# EAGLE library part IC_64 (library atmel_prototype_header)
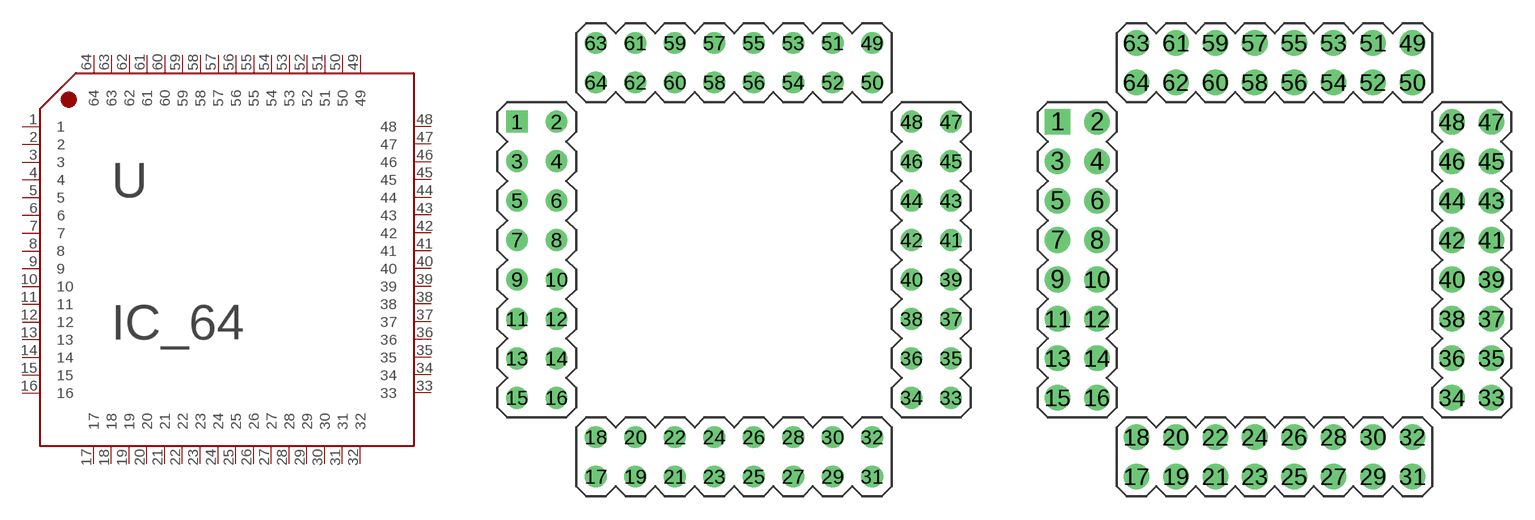
[diagram p12: symbol with the pads of HEADER_DUALSQR64_35; footprints HEADER_DUALSQR64_35, HEADER_DUALSQR64_43]

Designator prefix U

## IC_64_35  [HEADER_DUALSQR64_35]
1  1
2  2
3  3
4  4
5  5
6  6
7  7
8  8
9  9
10  10
11  11
12  12
13  13
14  14
15  15
16  16
17  17
18  18
19  19
20  20
21  21
22  22
23  23
24  24
25  25
26  26
27  27
28  28
29  29
30  30
31  31
32  32
33  33
34  34
35  35
36  36
37  37
38  38
39  39
40  40
41  41
42  42
43  43
44  44
45  45
46  46
47  47
48  48
49  49
50  50
51  51
52  52
53  53
54  54
55  55
56  56
57  57
58  58
59  59
60  60
61  61
62  62
63  63
64  64

## IC_64_43  [HEADER_DUALSQR64_43]
Pads as for HEADER_DUALSQR64_35

## IC_64_TQFP_EZ  [TQFP64_EZ]
Pads as for HEADER_DUALSQR64_35

## IC_64_MLF  [MLF64]
Pads as for HEADER_DUALSQR64_35

## IC_64_TQFP  [TQFP64]
Pads as for HEADER_DUALSQR64_35

## IC_64_LQFP_MILL  [LQFP64_MILL]
Pads as for HEADER_DUALSQR64_35

## IC_64_LQFP  [LQFP64]
Pads as for HEADER_DUALSQR64_35

## IC_64_PLCC_35  [HEADER_PLCC64_35]
Pads as for HEADER_DUALSQR64_35

## IC_64_PLCC_43  [HEADER_PLCC64_43]
Pads as for HEADER_DUALSQR64_35

## IC_64_LQFP_EZ  [LQFP64_EZ]
Pads as for HEADER_DUALSQR64_35

## Footprint HEADER_DUALSQR64_35 (pad centres in mm)
drill 0.9 square: 1 -13.97,8.89
drill 0.9: 2 -11.43,8.89; 3 -13.97,6.35; 4 -11.43,6.35; 5 -13.97,3.81; 6 -11.43,3.81; 7 -13.97,1.27; 8 -11.43,1.27; 9 -13.97,-1.27; 10 -11.43,-1.27; 11 -13.97,-3.81; 12 -11.43,-3.81; 13 -13.97,-6.35; 14 -11.43,-6.35; 15 -13.97,-8.89; 16 -11.43,-8.89; 17 -8.89,-13.97; 18 -8.89,-11.43; 19 -6.35,-13.97; 20 -6.35,-11.43; 21 -3.81,-13.97; 22 -3.81,-11.43; 23 -1.27,-13.97; 24 -1.27,-11.43; 25 1.27,-13.97; 26 1.27,-11.43; 27 3.81,-13.97; 28 3.81,-11.43; 29 6.35,-13.97; 30 6.35,-11.43; 31 8.89,-13.97; 32 8.89,-11.43; 33 13.97,-8.89; 34 11.43,-8.89; 35 13.97,-6.35; 36 11.43,-6.35; 37 13.97,-3.81; 38 11.43,-3.81; 39 13.97,-1.27; 40 11.43,-1.27; 41 13.97,1.27; 42 11.43,1.27; 43 13.97,3.81; 44 11.43,3.81; 45 13.97,6.35; 46 11.43,6.35; 47 13.97,8.89; 48 11.43,8.89; 49 8.89,13.97; 50 8.89,11.43; 51 6.35,13.97; 52 6.35,11.43; 53 3.81,13.97; 54 3.81,11.43; 55 1.27,13.97; 56 1.27,11.43; 57 -1.27,13.97; 58 -1.27,11.43; 59 -3.81,13.97; 60 -3.81,11.43; 61 -6.35,13.97; 62 -6.35,11.43; 63 -8.89,13.97; 64 -8.89,11.43

## Footprint HEADER_DUALSQR64_43 (pad centres in mm)
drill 1.1 square: 1 -13.97,8.89
drill 1.1: 2 -11.43,8.89; 3 -13.97,6.35; 4 -11.43,6.35; 5 -13.97,3.81; 6 -11.43,3.81; 7 -13.97,1.27; 8 -11.43,1.27; 9 -13.97,-1.27; 10 -11.43,-1.27; 11 -13.97,-3.81; 12 -11.43,-3.81; 13 -13.97,-6.35; 14 -11.43,-6.35; 15 -13.97,-8.89; 16 -11.43,-8.89; 17 -8.89,-13.97; 18 -8.89,-11.43; 19 -6.35,-13.97; 20 -6.35,-11.43; 21 -3.81,-13.97; 22 -3.81,-11.43; 23 -1.27,-13.97; 24 -1.27,-11.43; 25 1.27,-13.97; 26 1.27,-11.43; 27 3.81,-13.97; 28 3.81,-11.43; 29 6.35,-13.97; 30 6.35,-11.43; 31 8.89,-13.97; 32 8.89,-11.43; 33 13.97,-8.89; 34 11.43,-8.89; 35 13.97,-6.35; 36 11.43,-6.35; 37 13.97,-3.81; 38 11.43,-3.81; 39 13.97,-1.27; 40 11.43,-1.27; 41 13.97,1.27; 42 11.43,1.27; 43 13.97,3.81; 44 11.43,3.81; 45 13.97,6.35; 46 11.43,6.35; 47 13.97,8.89; 48 11.43,8.89; 49 8.89,13.97; 50 8.89,11.43; 51 6.35,13.97; 52 6.35,11.43; 53 3.81,13.97; 54 3.81,11.43; 55 1.27,13.97; 56 1.27,11.43; 57 -1.27,13.97; 58 -1.27,11.43; 59 -3.81,13.97; 60 -3.81,11.43; 61 -6.35,13.97; 62 -6.35,11.43; 63 -8.89,13.97; 64 -8.89,11.43

## Footprint TQFP64_EZ (pad centres in mm)
smd 1.524 x 0.406: 1 -7.76,5.905; 2 -7.76,5.118; 3 -7.76,4.331; 4 -7.76,3.543; 5 -7.76,2.756; 6 -7.76,1.968; 7 -7.76,1.181; 8 -7.76,0.394; 9 -7.76,-0.394; 10 -7.76,-1.181; 11 -7.76,-1.968; 12 -7.76,-2.756; 13 -7.76,-3.543; 14 -7.76,-4.331; 15 -7.76,-5.118; 16 -7.76,-5.905; 33 7.76,-5.905; 34 7.76,-5.118; 35 7.76,-4.331; 36 7.76,-3.543; 37 7.76,-2.756; 38 7.76,-1.968; 39 7.76,-1.181; 40 7.76,-0.394; 41 7.76,0.394; 42 7.76,1.181; 43 7.76,1.968; 44 7.76,2.756; 45 7.76,3.543; 46 7.76,4.331; 47 7.76,5.118; 48 7.76,5.905
smd 0.406 x 1.524: 17 -5.905,-7.76; 18 -5.118,-7.76; 19 -4.331,-7.76; 20 -3.543,-7.76; 21 -2.756,-7.76; 22 -1.968,-7.76; 23 -1.181,-7.76; 24 -0.394,-7.76; 25 0.394,-7.76; 26 1.181,-7.76; 27 1.968,-7.76; 28 2.756,-7.76; 29 3.543,-7.76; 30 4.331,-7.76; 31 5.118,-7.76; 32 5.905,-7.76; 49 5.905,7.76; 50 5.118,7.76; 51 4.331,7.76; 52 3.543,7.76; 53 2.756,7.76; 54 1.968,7.76; 55 1.181,7.76; 56 0.394,7.76; 57 -0.394,7.76; 58 -1.181,7.76; 59 -1.968,7.76; 60 -2.756,7.76; 61 -3.543,7.76; 62 -4.331,7.76; 63 -5.118,7.76; 64 -5.905,7.76

## Footprint MLF64 (pad centres in mm)
64M1 Micro Lead Frame package (MLF)
smd 0.7 x 0.3: 1 -4.325,3.75; 2 -4.325,3.25; 3 -4.325,2.75; 4 -4.325,2.25; 5 -4.325,1.75; 6 -4.325,1.25; 7 -4.325,0.75; 8 -4.325,0.25; 9 -4.325,-0.25; 10 -4.325,-0.75; 11 -4.325,-1.25; 12 -4.325,-1.75; 13 -4.325,-2.25; 14 -4.325,-2.75; 15 -4.325,-3.25; 16 -4.325,-3.75; 33 4.325,-3.75; 34 4.325,-3.25; 35 4.325,-2.75; 36 4.325,-2.25; 37 4.325,-1.75; 38 4.325,-1.25; 39 4.325,-0.75; 40 4.325,-0.25; 41 4.325,0.25; 42 4.325,0.75; 43 4.325,1.25; 44 4.325,1.75; 45 4.325,2.25; 46 4.325,2.75; 47 4.325,3.25; 48 4.325,3.75
smd 0.3 x 0.7: 17 -3.75,-4.325; 18 -3.25,-4.325; 19 -2.75,-4.325; 20 -2.25,-4.325; 21 -1.75,-4.325; 22 -1.25,-4.325; 23 -0.75,-4.325; 24 -0.25,-4.325; 25 0.25,-4.325; 26 0.75,-4.325; 27 1.25,-4.325; 28 1.75,-4.325; 29 2.25,-4.325; 30 2.75,-4.325; 31 3.25,-4.325; 32 3.75,-4.325; 49 3.75,4.325; 50 3.25,4.325; 51 2.75,4.325; 52 2.25,4.325; 53 1.75,4.325; 54 1.25,4.325; 55 0.75,4.325; 56 0.25,4.325; 57 -0.25,4.325; 58 -0.75,4.325; 59 -1.25,4.325; 60 -1.75,4.325; 61 -2.25,4.325; 62 -2.75,4.325; 63 -3.25,4.325; 64 -3.75,4.325

## Footprint TQFP64 (pad centres in mm)
Thin Plasic Quad Flat Package
smd 1.194 x 0.559: 1 -7.76,5.905; 2 -7.76,5.118; 3 -7.76,4.331; 4 -7.76,3.543; 5 -7.76,2.756; 6 -7.76,1.968; 7 -7.76,1.181; 8 -7.76,0.394; 9 -7.76,-0.394; 10 -7.76,-1.181; 11 -7.76,-1.968; 12 -7.76,-2.756; 13 -7.76,-3.543; 14 -7.76,-4.331; 15 -7.76,-5.118; 16 -7.76,-5.905; 33 7.76,-5.905; 34 7.76,-5.118; 35 7.76,-4.331; 36 7.76,-3.543; 37 7.76,-2.756; 38 7.76,-1.968; 39 7.76,-1.181; 40 7.76,-0.394; 41 7.76,0.394; 42 7.76,1.181; 43 7.76,1.968; 44 7.76,2.756; 45 7.76,3.543; 46 7.76,4.331; 47 7.76,5.118; 48 7.76,5.905
smd 0.559 x 1.194: 17 -5.905,-7.76; 18 -5.118,-7.76; 19 -4.331,-7.76; 20 -3.543,-7.76; 21 -2.756,-7.76; 22 -1.968,-7.76; 23 -1.181,-7.76; 24 -0.394,-7.76; 25 0.394,-7.76; 26 1.181,-7.76; 27 1.968,-7.76; 28 2.756,-7.76; 29 3.543,-7.76; 30 4.331,-7.76; 31 5.118,-7.76; 32 5.905,-7.76; 49 5.905,7.76; 50 5.118,7.76; 51 4.331,7.76; 52 3.543,7.76; 53 2.756,7.76; 54 1.968,7.76; 55 1.181,7.76; 56 0.394,7.76; 57 -0.394,7.76; 58 -1.181,7.76; 59 -1.968,7.76; 60 -2.756,7.76; 61 -3.543,7.76; 62 -4.331,7.76; 63 -5.118,7.76; 64 -5.905,7.76

## Footprint LQFP64_MILL (pad centres in mm)
Plastic Low Profile Quad Flat Package. Mill spec. from ti_msp430.lbr
smd 2 x 0.287: 1 -5.7,3.75; 2 -5.7,3.25; 3 -5.7,2.75; 4 -5.7,2.25; 5 -5.7,1.75; 6 -5.7,1.25; 7 -5.7,0.75; 8 -5.7,0.25; 9 -5.7,-0.25; 10 -5.7,-0.75; 11 -5.7,-1.25; 12 -5.7,-1.75; 13 -5.7,-2.25; 14 -5.7,-2.75; 15 -5.7,-3.25; 16 -5.7,-3.75; 33 5.7,-3.75; 34 5.7,-3.25; 35 5.7,-2.75; 36 5.7,-2.25; 37 5.7,-1.75; 38 5.7,-1.25; 39 5.7,-0.75; 40 5.7,-0.25; 41 5.7,0.25; 42 5.7,0.75; 43 5.7,1.25; 44 5.7,1.75; 45 5.7,2.25; 46 5.7,2.75; 47 5.7,3.25; 48 5.7,3.75
smd 0.287 x 2: 17 -3.75,-5.7; 18 -3.25,-5.7; 19 -2.75,-5.7; 20 -2.25,-5.7; 21 -1.75,-5.7; 22 -1.25,-5.7; 23 -0.75,-5.7; 24 -0.25,-5.7; 25 0.25,-5.7; 26 0.75,-5.7; 27 1.25,-5.7; 28 1.75,-5.7; 29 2.25,-5.7; 30 2.75,-5.7; 31 3.25,-5.7; 32 3.75,-5.7; 49 3.75,5.7; 50 3.25,5.7; 51 2.75,5.7; 52 2.25,5.7; 53 1.75,5.7; 54 1.25,5.7; 55 0.75,5.7; 56 0.25,5.7; 57 -0.25,5.7; 58 -0.75,5.7; 59 -1.25,5.7; 60 -1.75,5.7; 61 -2.25,5.7; 62 -2.75,5.7; 63 -3.25,5.7; 64 -3.75,5.7

## Footprint LQFP64 (pad centres in mm)
Plastic Low Profile Quad Flat Package. From ti_msp430.lbr
smd 1.1 x 0.285: 1 -5.7,3.75; 2 -5.7,3.25; 3 -5.7,2.75; 4 -5.7,2.25; 5 -5.7,1.75; 6 -5.7,1.25; 7 -5.7,0.75; 8 -5.7,0.25; 9 -5.7,-0.25; 10 -5.7,-0.75; 11 -5.7,-1.25; 12 -5.7,-1.75; 13 -5.7,-2.25; 14 -5.7,-2.75; 15 -5.7,-3.25; 16 -5.7,-3.75; 33 5.7,-3.75; 34 5.7,-3.25; 35 5.7,-2.75; 36 5.7,-2.25; 37 5.7,-1.75; 38 5.7,-1.25; 39 5.7,-0.75; 40 5.7,-0.25; 41 5.7,0.25; 42 5.7,0.75; 43 5.7,1.25; 44 5.7,1.75; 45 5.7,2.25; 46 5.7,2.75; 47 5.7,3.25; 48 5.7,3.75
smd 0.285 x 1.1: 17 -3.75,-5.7; 18 -3.25,-5.7; 19 -2.75,-5.7; 20 -2.25,-5.7; 21 -1.75,-5.7; 22 -1.25,-5.7; 23 -0.75,-5.7; 24 -0.25,-5.7; 25 0.25,-5.7; 26 0.75,-5.7; 27 1.25,-5.7; 28 1.75,-5.7; 29 2.25,-5.7; 30 2.75,-5.7; 31 3.25,-5.7; 32 3.75,-5.7; 49 3.75,5.7; 50 3.25,5.7; 51 2.75,5.7; 52 2.25,5.7; 53 1.75,5.7; 54 1.25,5.7; 55 0.75,5.7; 56 0.25,5.7; 57 -0.25,5.7; 58 -0.75,5.7; 59 -1.25,5.7; 60 -1.75,5.7; 61 -2.25,5.7; 62 -2.75,5.7; 63 -3.25,5.7; 64 -3.75,5.7

## Footprint HEADER_PLCC64_35 (pad centres in mm)
drill 0.9 square: 1 -12.7,7.62
drill 0.9: 2 -10.16,7.62; 3 -12.7,5.08; 4 -10.16,5.08; 5 -12.7,2.54; 6 -10.16,2.54; 7 -12.7,0; 8 -10.16,0; 9 -12.7,-2.54; 10 -10.16,-2.54; 11 -12.7,-5.08; 12 -10.16,-5.08; 13 -12.7,-7.62; 14 -10.16,-7.62; 15 -12.7,-10.16; 16 -10.16,-10.16; 17 -7.62,-12.7; 18 -7.62,-10.16; 19 -5.08,-12.7; 20 -5.08,-10.16; 21 -2.54,-12.7; 22 -2.54,-10.16; 23 0,-12.7; 24 0,-10.16; 25 2.54,-12.7; 26 2.54,-10.16; 27 5.08,-12.7; 28 5.08,-10.16; 29 7.62,-12.7; 30 7.62,-10.16; 31 10.16,-12.7; 32 10.16,-10.16; 33 12.7,-7.62; 34 10.16,-7.62; 35 12.7,-5.08; 36 10.16,-5.08; 37 12.7,-2.54; 38 10.16,-2.54; 39 12.7,0; 40 10.16,0; 41 12.7,2.54; 42 10.16,2.54; 43 12.7,5.08; 44 10.16,5.08; 45 12.7,7.62; 46 10.16,7.62; 47 12.7,10.16; 48 10.16,10.16; 49 7.62,12.7; 50 7.62,10.16; 51 5.08,12.7; 52 5.08,10.16; 53 2.54,12.7; 54 2.54,10.16; 55 0,12.7; 56 0,10.16; 57 -2.54,12.7; 58 -2.54,10.16; 59 -5.08,12.7; 60 -5.08,10.16; 61 -7.62,12.7; 62 -7.62,10.16; 63 -10.16,12.7; 64 -10.16,10.16
hole 0.9 at -12.7,10.16
hole 0.9 at 10.16,12.7
hole 0.9 at 12.7,-10.16
hole 0.9 at -10.16,-12.7

## Footprint HEADER_PLCC64_43 (pad centres in mm)
drill 1.1 square: 1 -12.7,7.62
drill 1.1: 2 -10.16,7.62; 3 -12.7,5.08; 4 -10.16,5.08; 5 -12.7,2.54; 6 -10.16,2.54; 7 -12.7,0; 8 -10.16,0; 9 -12.7,-2.54; 10 -10.16,-2.54; 11 -12.7,-5.08; 12 -10.16,-5.08; 13 -12.7,-7.62; 14 -10.16,-7.62; 15 -12.7,-10.16; 16 -10.16,-10.16; 17 -7.62,-12.7; 18 -7.62,-10.16; 19 -5.08,-12.7; 20 -5.08,-10.16; 21 -2.54,-12.7; 22 -2.54,-10.16; 23 0,-12.7; 24 0,-10.16; 25 2.54,-12.7; 26 2.54,-10.16; 27 5.08,-12.7; 28 5.08,-10.16; 29 7.62,-12.7; 30 7.62,-10.16; 31 10.16,-12.7; 32 10.16,-10.16; 33 12.7,-7.62; 34 10.16,-7.62; 35 12.7,-5.08; 36 10.16,-5.08; 37 12.7,-2.54; 38 10.16,-2.54; 39 12.7,0; 40 10.16,0; 41 12.7,2.54; 42 10.16,2.54; 43 12.7,5.08; 44 10.16,5.08; 45 12.7,7.62; 46 10.16,7.62; 47 12.7,10.16; 48 10.16,10.16; 49 7.62,12.7; 50 7.62,10.16; 51 5.08,12.7; 52 5.08,10.16; 53 2.54,12.7; 54 2.54,10.16; 55 0,12.7; 56 0,10.16; 57 -2.54,12.7; 58 -2.54,10.16; 59 -5.08,12.7; 60 -5.08,10.16; 61 -7.62,12.7; 62 -7.62,10.16; 63 -10.16,12.7; 64 -10.16,10.16
hole 1.1 at -12.7,10.16
hole 1.1 at 10.16,12.7
hole 1.1 at 12.7,-10.16
hole 1.1 at -10.16,-12.7

## Footprint LQFP64_EZ (pad centres in mm)
smd 1.778 x 0.254: 1 -5.7,3.75; 2 -5.7,3.25; 3 -5.7,2.75; 4 -5.7,2.25; 5 -5.7,1.75; 6 -5.7,1.25; 7 -5.7,0.75; 8 -5.7,0.25; 9 -5.7,-0.25; 10 -5.7,-0.75; 11 -5.7,-1.25; 12 -5.7,-1.75; 13 -5.7,-2.25; 14 -5.7,-2.75; 15 -5.7,-3.25; 16 -5.7,-3.75; 33 5.7,-3.75; 34 5.7,-3.25; 35 5.7,-2.75; 36 5.7,-2.25; 37 5.7,-1.75; 38 5.7,-1.25; 39 5.7,-0.75; 40 5.7,-0.25; 41 5.7,0.25; 42 5.7,0.75; 43 5.7,1.25; 44 5.7,1.75; 45 5.7,2.25; 46 5.7,2.75; 47 5.7,3.25; 48 5.7,3.75
smd 0.254 x 1.778: 17 -3.75,-5.7; 18 -3.25,-5.7; 19 -2.75,-5.7; 20 -2.25,-5.7; 21 -1.75,-5.7; 22 -1.25,-5.7; 23 -0.75,-5.7; 24 -0.25,-5.7; 25 0.25,-5.7; 26 0.75,-5.7; 27 1.25,-5.7; 28 1.75,-5.7; 29 2.25,-5.7; 30 2.75,-5.7; 31 3.25,-5.7; 32 3.75,-5.7; 49 3.75,5.7; 50 3.25,5.7; 51 2.75,5.7; 52 2.25,5.7; 53 1.75,5.7; 54 1.25,5.7; 55 0.75,5.7; 56 0.25,5.7; 57 -0.25,5.7; 58 -0.75,5.7; 59 -1.25,5.7; 60 -1.75,5.7; 61 -2.25,5.7; 62 -2.75,5.7; 63 -3.25,5.7; 64 -3.75,5.7